# Altium footprint library MAL219691252E3.PcbLib: 1 footprints
Each footprint in its own frame and in the unit in brackets; x right, y up, seen from the top. Pads: shape width x height; smd on the part's side, far side on the other; paste and mask are expansions set on the pad; w line width, h text height; cw(c..) or ccw(c..) is an arc to the next point about the centre after c.
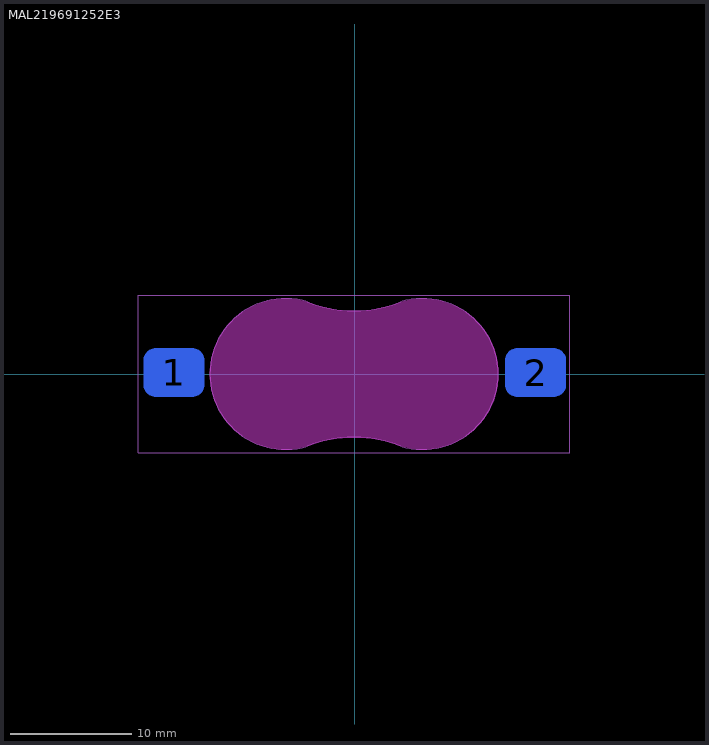
[diagram p0: the footprint, top view; thin cyan lines are the x and y axes]

## MAL219691252E3 [mm]
pads (2):
  rrect50% 5x4 smd far side: 1(-14.859,0.127) 2(14.859,0.127)
Bottom Overlay:
  lines w0.1: -15.525,3.461 -14.447,3.461 ; -14.986,2.923 -14.986,4 ; 14.193,3.461 15.271,3.461
Keep-Out Layer:
  drawing of 4 lines, arcs and shapes, not listed
Top Assembly:
  lines w0.1: -3.912,-5.923 cw(c-5.712,0.01) -3.912,5.943 ccw(c-0.062,15.686) 3.788,5.943 cw(c5.588,0.01) 3.788,-5.923 ccw(c-0.062,-15.666) -3.912,-5.923
Top Courtyard:
  lines w0.1: -17.78,-6.477 17.653,-6.477 17.653,6.477 -17.78,6.477 -17.78,0.911 -17.78,-6.477
3D body "MAL219691252E3.stp": height 1.61, standoff -1.8, extent -15.624,-5.9 15.5,5.92